# EAGLE library part TXB0101 (library esbd-chips)
1-Bit Bi-Directional Level Shifter Texas Instruments 1.2V-3.6V (VCCA) to 1.65V-5.5V (VCCB) bi-directional level shifter with auto direction sensing.
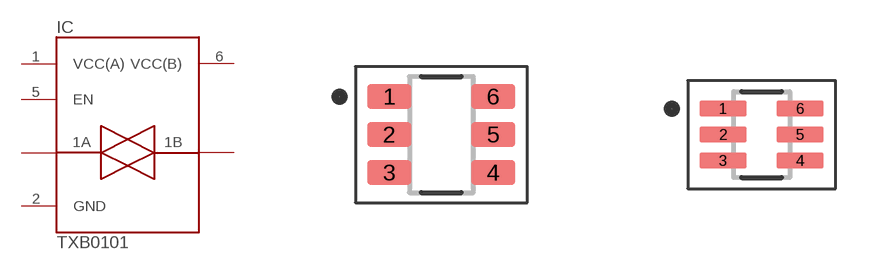
[diagram p39: symbol with the pads of SOT23-6_1.60X2.90MM; footprints SOT23-6_1.60X2.90MM, SC70-6_1.25X2.00MM]

Designator prefix IC

## TXB0101DBV  [SOT23-6_1.60X2.90MM]
1  VCC(A)  pwr
2  GND  pwr
3  1A
4  1B
5  EN  in
6  VCC(B)  pwr

## TXB0101DCK  [SC70-6_1.25X2.00MM]
Pads as for SOT23-6_1.60X2.90MM

## TXB0101DRL  [SOT563_1.20X1.60MM]
Pads as for SOT23-6_1.60X2.90MM

## Footprint SOT23-6_1.60X2.90MM (pad centres in mm)
https://www.analog.com/media/en/package-pcb-resources/package/pkg_pdf/ltc-legacy-sot-23/SOT_6_05-08-1636.pdf
smd 1.1 x 0.6: 1 -1.3,0.95; 2 -1.3,0; 3 -1.3,-0.95; 4 1.3,-0.95; 5 1.3,0; 6 1.3,0.95

## Footprint SC70-6_1.25X2.00MM (pad centres in mm)
https://www.ti.com/lit/ml/mpds114c/mpds114c.pdf
smd 1.186 x 0.397: 1 -0.962,0.65; 2 -0.962,0; 3 -0.962,-0.65; 4 0.962,-0.65; 5 0.962,0; 6 0.962,0.65

## Footprint SOT563_1.20X1.60MM (pad centres in mm)
https://www.ti.com/lit/ml/mpds159f/mpds159f.pdf
smd 0.66 x 0.314: 1 -0.735,0.5; 2 -0.735,0; 3 -0.735,-0.5; 4 0.735,-0.5; 5 0.735,0; 6 0.735,0.5